# Altium footprint library 400236.PcbLib: 96 footprints (part 2 of 6)
Each footprint in its own frame and in the unit in brackets; x right, y up, seen from the top. Pads: shape width x height; smd on the part's side, far side on the other; paste and mask are expansions set on the pad; w line width, h text height; cw(c..) or ccw(c..) is an arc to the next point about the centre after c.
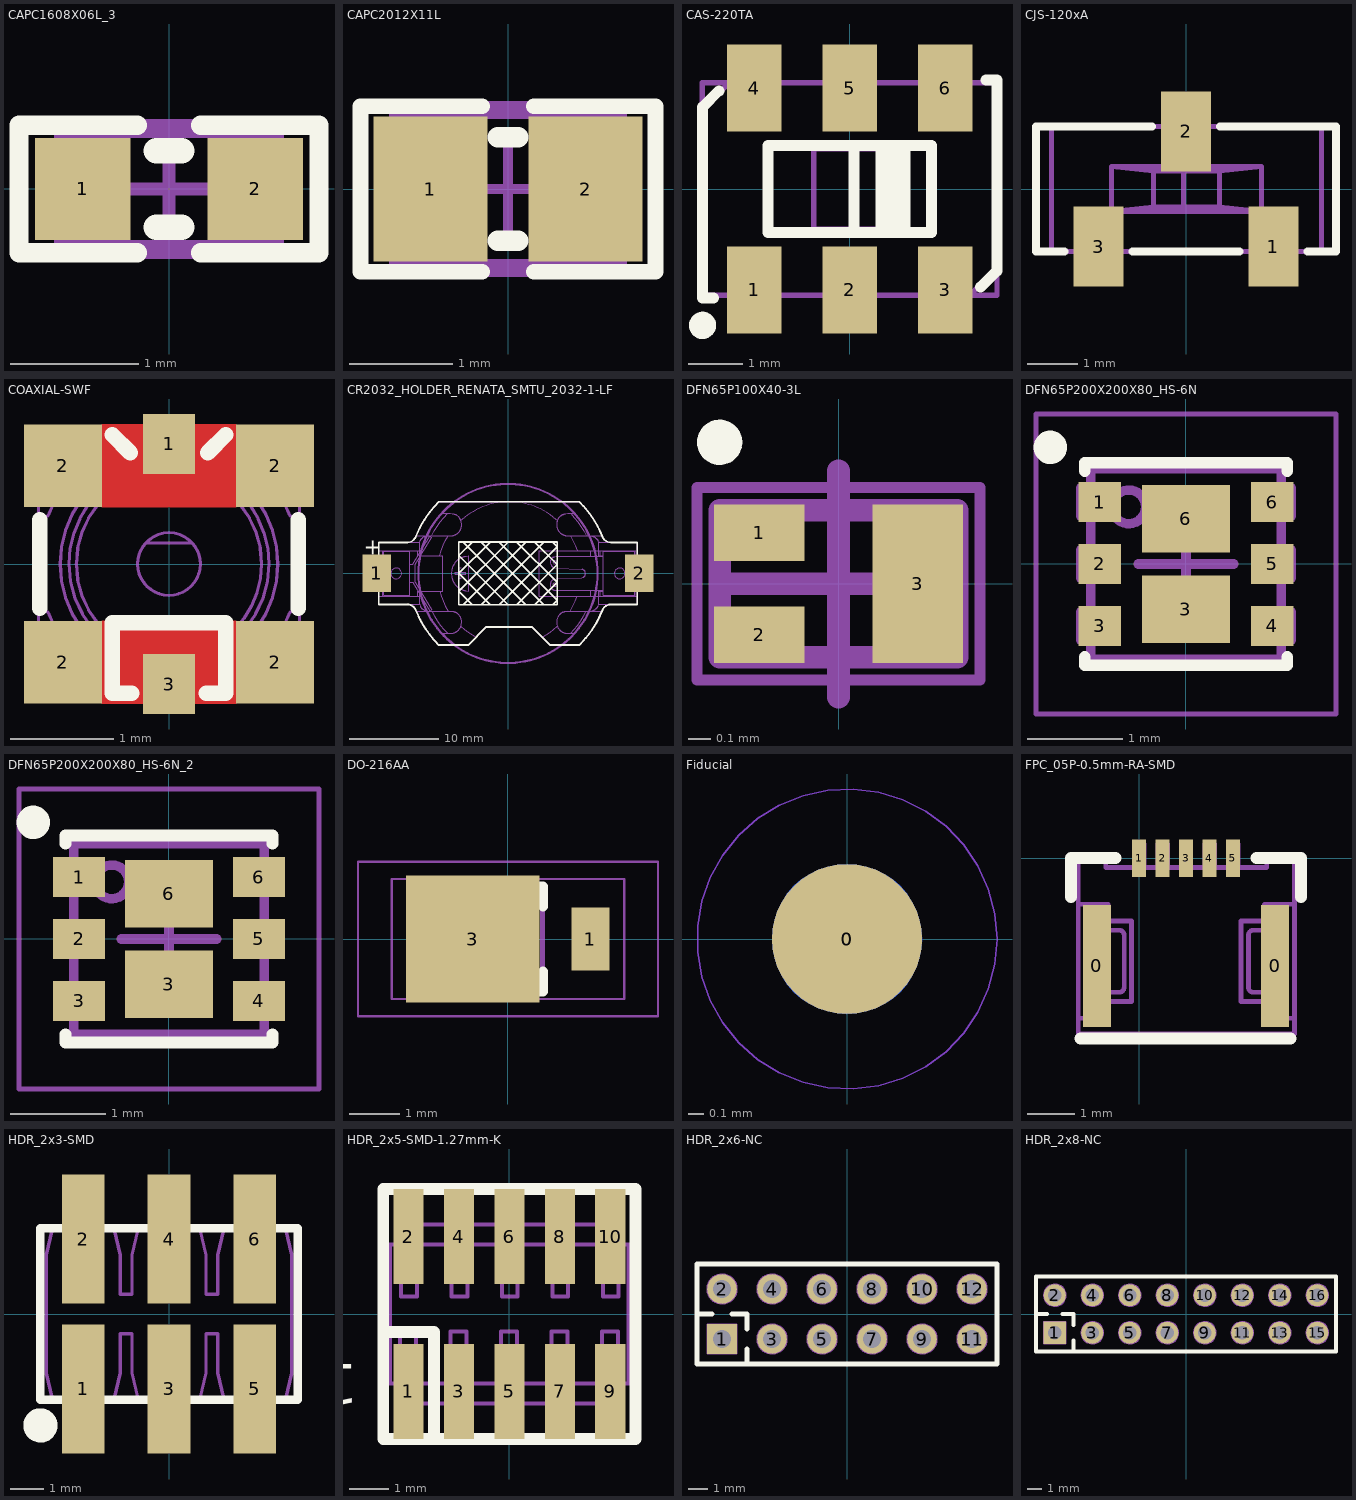
[diagram p1: the footprints below, top view; thin cyan lines are the x and y axes]

## CAPC1608X06L_3 [mm]
pads (2):
  rect 0.75x0.8 smd: 1(-0.675,0) 2(0.675,0)
Top Overlay:
  lines w0.152: -0.25,-0.5 -1.175,-0.5 -1.175,0.5 -0.25,0.5 ; 0.25,-0.5 1.175,-0.5 1.175,0.5 0.25,0.5
  lines w0.2: -0.1,-0.3 0.1,-0.3 ; -0.1,0.3 0.1,0.3
Mechanical 7:
  lines w0.1: -0.85,-0.45 -0.85,0.45 0.85,0.45 0.85,-0.45 -0.85,-0.45
  text ".Designator" at -0.364,-0.143 h0.3
Mechanical 15:
  lines w0.1: -0.45,0 0.45,0 ; 0,-0.45 0,0.45 ; -1.175,-0.5 1.175,-0.5 1.175,0.5 -1.175,0.5 -1.175,-0.5
3D body "User Library-Chip Capacitor 0603.step": height 0.8, standoff 0, extent -0.8,-0.43 0.8,0.43

## CAPC2012X11L [mm]
pads (2):
  rect 1.1x1.4 smd: 1(-0.75,0) 2(0.75,0)
Top Overlay:
  lines w0.152: -0.25,-0.8 -1.425,-0.8 -1.425,0.8 -0.25,0.8 ; 0.25,-0.8 1.425,-0.8 1.425,0.8 0.25,0.8
  lines w0.2: -0.1,-0.5 0.1,-0.5 ; -0.1,0.5 0.1,0.5
Mechanical 7:
  lines w0.1: -1.1,-0.725 1.1,-0.725 1.1,0.725 -1.1,0.725 -1.1,-0.725
  text ".Designator" at -0.396,-0.125 h0.3
Mechanical 15:
  lines w0.1: -0.5,0 0.5,0 ; 0,-0.5 0,0.5 ; -1.425,-0.8 1.425,-0.8 1.425,0.8 -1.425,0.8 -1.425,-0.8
3D body "SW3dPS-0805 SMD Capacitor.STEP": height 0.77, standoff -0.01, extent -1,-0.625 1,0.625

## CAS-220TA [mm]
pads (6):
  rect 1x1.6 smd: 1(-1.75,-1.85) 2(0,-1.85) 3(1.75,-1.85) 4(-1.75,1.85) 5(0,1.85) 6(1.75,1.85)
Top Overlay:
  circle w0.3: c-2.7,-2.5 r0.1
  rectangle: 0.47,-0.8 1.11,0.8
  lines w0.2: -2.5,-2 -2.7,-2 -2.7,1.5 -2.4,1.8 ; 0.08,-0.8 0.08,0.8 ; 2.4,-1.8 2.7,-1.5 2.7,2 2.5,2 ; -1.5,-0.8 -1.5,0.8 1.5,0.8 1.5,-0.8 -1.5,-0.8
Mechanical 7:
  lines w0.1: -2.7,1.45 -2.2,1.95 ; -2.05,-1.95 -2.05,-2.1 -1.45,-2.1 -1.45,-1.95 ; -2.05,1.95 -2.05,2.1 -1.45,2.1 -1.45,1.95 ; -0.3,-1.95 -0.3,-2.1 0.3,-2.1 0.3,-1.95 ; -0.3,1.95 -0.3,2.1 0.3,2.1 0.3,1.95 ; 0.06,-0.738 0.06,0.738 ; 1.45,-1.95 1.45,-2.1 2.05,-2.1 2.05,-1.95 ; 1.45,1.95 1.45,2.1 2.05,2.1 2.05,1.95 ; 2.2,-1.95 2.7,-1.45 ; -1.5,-0.828 -1.5,0.828 ; -1.5,-0.828 1.5,-0.828 ; -1.5,-0.828 -0.66,-0.738 ; -1.5,0.828 -0.66,0.738 ; -1.5,0.828 1.5,0.828 ; -0.66,-0.738 0.66,-0.738 ; -0.66,-0.738 -0.66,0.738 ; -0.66,0.738 0.66,0.738 ; 0.66,-0.738 0.66,0.738 ; 0.66,-0.738 1.5,-0.828 ; 0.66,0.738 1.5,0.828 ; 1.5,-0.828 1.5,0.828 ; -2.7,-1.95 2.7,-1.95 2.7,1.95 -2.7,1.95 -2.7,-1.95
  text ".Designator" at 0.546,1.329 h0.3
3D body: height 2.5, standoff 2.2, extent -2.7,-2 2.7,-0.8
3D body: height 0.15, standoff 0, extent -0.3,1.305 0.3,2.005
3D body: height 0.15, standoff 0, extent 1.45,-2.005 2.05,-1.305
3D body: height 0.15, standoff 0, extent -2.05,-2.005 -1.45,-1.305
3D body: height 1.2, standoff 0, extent -0.3,2.005 0.3,2.155
3D body: height 1.2, standoff 0, extent 1.45,-2.155 2.05,-2.005
3D body: height 1.2, standoff 0, extent -2.05,-2.155 -1.45,-2.005
3D body: height 2.5, standoff 2.2, extent 1.5,-1.15 2.7,1.15
3D body: height 2.5, standoff 2.2, extent -2.7,-1.15 -1.5,1.15
3D body: height 2.5, standoff 2.2, extent -2.7,0.8 2.7,2
3D body: height 2.2, standoff 0.15, extent -2.7,-2 2.7,2
3D body: height 1.2, standoff 0, extent -0.3,-2.155 0.3,-2.005
3D body: height 0.15, standoff 0, extent -0.3,-2.005 0.3,-1.305
3D body: height 1.2, standoff 0, extent -2.05,2.005 -1.45,2.155
3D body: height 0.15, standoff 0, extent -2.05,1.305 -1.45,2.005
3D body: height 1.2, standoff 0, extent 1.45,2.005 2.05,2.155
3D body: height 0.15, standoff 0, extent 1.45,1.305 2.05,2.005
3D body: height 2.5, standoff 2.22, extent 0.47,-0.8 1.11,0.8
3D body: height 2.22, standoff 2.2, extent 0.08,-0.8 1.5,0.8
3D body: height 2.51, standoff 2.5, extent -1.497,-1.879 -0.9,-1.28

## CJS-120xA [mm]
pads (3):
  rect 1x1.6 smd: 1(1.75,-1.15) 2(0,1.15) 3(-1.75,-1.15)
Top Overlay:
  lines w0.152: -2.43,-1.25 -3,-1.25 -3,1.25 -0.68,1.25 ; -1.07,-1.25 1.07,-1.25 ; 0.68,1.25 3,1.25 3,-1.25 2.43,-1.25
Mechanical 7:
  lines w0.1: -2.04,-1.25 -2.04,-1.4 -1.44,-1.4 -1.44,-1.25 ; -0.29,1.25 -0.29,1.4 0.31,1.4 0.31,1.25 ; 0.07,-0.36 -0.65,-0.36 ; 0.07,0.36 -0.65,0.36 ; 1.46,-1.25 1.46,-1.4 2.06,-1.4 2.06,-1.25 ; -1.49,-0.45 -1.49,0.45 ; -1.49,-0.45 1.51,-0.45 ; -1.49,-0.45 -0.65,-0.36 ; -1.49,0.45 1.51,0.45 ; -1.49,0.45 -0.65,0.36 ; -0.65,-0.36 -0.65,0.36 ; 0.67,-0.36 0.67,0.36 ; 0.67,-0.36 -0.05,-0.36 -0.05,0.36 0.67,0.36 ; 0.67,-0.36 1.51,-0.45 ; 0.67,0.36 1.51,0.45 ; 1.51,-0.45 1.51,0.45 ; -2.69,-1.25 -2.69,1.25 2.71,1.25 2.71,-1.25 -2.69,-1.25
  text ".Designator" at -0.47,-1 h0.3
3D body "User Library-CJS-1200TA -Copal Electronics -SPDT Micro Slide Switch.step": height 2.5, standoff 0, extent -3,-1.4 3,1.45

## COAXIAL-SWF [mm]
pads (6):
  rect 0.5x0.58 smd: 1(0,1.16) 3(0,-1.16)
  rect 0.75x0.8 smd: 2(-1.025,-0.95) 2(-1.025,0.95) 2(1.025,-0.95) 2(1.025,0.95)
Top Layer:
  pour cut-out: 0.65,-0.55 -0.65,-0.55 -0.65,-1.35 0.65,-1.35
  pour cut-out: -0.65,0.55 0.65,0.55 0.65,1.35 -0.65,1.35
Top Overlay:
  lines w0.15: -1.25,-0.43 -1.25,0.43 ; -0.55,1.25 -0.375,1.075 ; -0.36,-1.25 -0.55,-1.25 -0.55,-0.57 0.55,-0.57 0.55,-1.25 0.36,-1.25 ; 0.375,1.075 0.55,1.25 ; 1.25,-0.43 1.25,0.43
Mechanical 7:
  drawing of 206 lines, arcs and shapes, not listed
  text ".Designator" at -0.236,-0.726 h0.3
3D body: height 1.55, standoff 1.25, extent -1.05,-1.05 1.05,1.05
3D body: height 1.25, standoff 0.95, extent -1.05,-1.049 1.05,1.05
3D body: height 0.9, standoff 0.6, extent -1.05,-1.049 1.05,1.05
3D body: height 0.55, standoff 0.1, extent -1.262,-1.252 1.262,1.253
3D body: height 0.6, standoff 0, extent -1.262,0.655 -0.757,1.248
3D body: height 0.6, standoff 0, extent -1.262,-1.25 -0.757,-0.649
3D body: height 0.6, standoff 0, extent 0.757,-1.246 1.262,-0.653
3D body: height 0.6, standoff 0, extent 0.757,0.655 1.262,1.249
3D body: height 0.95, standoff 0.75, extent -1,-0.999 1,1.001
3D body: height 0.75, standoff 0.6, extent -1.05,-1.049 1.05,1.05
3D body: height 1.4, standoff 0.6, extent -0.9,-0.9 0.9,0.901
3D body: height 0.6, standoff 0.55, extent -1.262,-1.248 1.262,1.251
3D body: height 0.15, standoff 0, extent -0.227,0.899 0.227,1.299
3D body: height 0.15, standoff 0, extent -0.227,-1.301 0.227,-0.758

## CR2032_HOLDER_RENATA_SMTU_2032-1-LF [mm]
pads (2):
  rect 3.2x4.2 smd: 1(-14.65,0) 2(14.65,0)
Top Overlay:
  drawing of 220 lines, arcs and shapes, not listed
  text "+" at -16.1,2.1 h1.78
Mechanical 7:
  drawing of 1332 lines, arcs and shapes, not listed
Mechanical 15:
  circle w0.25: c0,0 r10
3D body "SMTU2032-LF.step": height 5.4, standoff 0, extent -15.9,-8.05 15.9,8.05

## DFN65P100X40-3L [mm]
pads (3):
  rect 0.4x0.25 smd: 1(-0.35,0.225) 2(-0.35,-0.225)
  rect 0.4x0.7 smd: 3(0.35,0)
Top Overlay:
  circle w0.1: c-0.525,0.625 r0.05
Mechanical 7:
  lines w0.1: -0.525,-0.325 -0.525,0.325 0.525,0.325 0.525,-0.325 -0.525,-0.325
  text ".Designator" at -0.4,-0.15 h0.3
Mechanical 15:
  lines w0.05: -0.625,-0.425 -0.625,0.425 0.625,0.425 0.625,-0.425 -0.625,-0.425
  lines w0.1: -0.5,0 0.5,0 ; 0,-0.5 0,0.5
3D body "DFN65P100X40-3L.step": height 0.4, standoff 0, extent -0.525,-0.325 0.525,0.325

## DFN65P200X200X80_HS-6N [mm]
pads (8):
  rect 0.45x0.42 smd mask+0.055: 1(-0.905,0.65) 2(-0.905,0) 3(-0.905,-0.65) 4(0.905,-0.65) 5(0.905,0) 6(0.905,0.65)
  rect 0.92x0.71 smd mask+0.055: 3(0,-0.475) 6(0,0.475)
Top Overlay:
  circle w0.25: c-1.425,1.225 r0.05
  lines w0.125: -1.063,-0.978 -1.063,-1.063 1.063,-1.063 1.063,-0.978 ; -1.063,0.978 -1.063,1.063 1.063,1.063 1.063,0.978
Mechanical 7:
  circle w0.1: c-0.6,0.6 r0.177
  lines w0.1: -1,-0.8 -1.105,-0.8 -1.105,-0.5 -1,-0.5 ; -1,-0.15 -1.105,-0.15 -1.105,0.15 -1,0.15 ; -1,0.5 -1.105,0.5 -1.105,0.8 -1,0.8 ; 1,-0.8 1.105,-0.8 1.105,-0.5 1,-0.5 ; 1,-0.15 1.105,-0.15 1.105,0.15 1,0.15 ; 1,0.5 1.105,0.5 1.105,0.8 1,0.8 ; -1,-1 1,-1 1,1 -1,1 -1,-1
  text ".Designator" at -0.6,-0.2 h0.38
Mechanical 15:
  lines w0.05: -1.575,-1.575 1.575,-1.575 1.575,1.575 -1.575,1.575 -1.575,-1.575
  lines w0.1: -0.5,0 0.5,0 ; 0,-0.5 0,0.5
3D body "QFN65P200X200X65-6N.step": height 0.65, standoff 0, extent -1.051,-1.05 1.051,1.05

## DFN65P200X200X80_HS-6N_2 [mm]
pads (8):
  rect 0.55x0.42 smd mask+0.055: 1(-0.945,0.65) 2(-0.945,0) 3(-0.945,-0.65) 4(0.945,-0.65) 5(0.945,0) 6(0.945,0.65)
  rect 0.92x0.71 smd mask+0.055: 3(0,-0.475) 6(0,0.475)
Top Overlay:
  circle w0.25: c-1.425,1.225 r0.05
  lines w0.125: -1.085,-1 -1.085,-1.085 1.085,-1.085 1.085,-1 ; -1.085,1 -1.085,1.085 1.085,1.085 1.085,1
Mechanical 7:
  circle w0.1: c-0.6,0.6 r0.177
  lines w0.1: -1,-1 1,-1 1,1 -1,1 -1,-1
  text ".Designator" at -0.6,-0.2 h0.38
Mechanical 15:
  lines w0.05: -1.575,-1.575 1.575,-1.575 1.575,1.575 -1.575,1.575 -1.575,-1.575
  lines w0.1: -0.5,0 0.5,0 ; 0,-0.5 0,0.5
3D body "DFN65P200X200X80_HS-6N.step": height 0.8, standoff 0, extent -1.025,-1.025 1.025,1.025

## DO-216AA [mm]
pads (2):
  rect 0.762x1.27 smd: 1(1.65,0)
  rect 2.67x2.54 smd: 3(-0.7,0)
Top Overlay:
  rectangle: -1.6,-1.05 -0.8,1.05
  lines w0.2: -1.5,-0.65 -1.5,-1.05 0.7,-1.05 0.7,-0.65 ; -1.5,0.65 -1.5,1.05 0.7,1.05 0.7,0.65
Mechanical 7:
  lines w0.1: -1.49,-1.025 0.69,-1.025 0.69,1.025 -1.49,1.025 -1.49,-1.025
  text ".Designator" at -0.03,0.138 h0.3
Mechanical 15:
  lines w0.05: -3,-1.55 -3,1.55 3,1.55 3,-1.55 -3,-1.55 ; -2.325,-1.2 -2.325,1.2 2.325,1.2 2.325,-1.2 -2.325,-1.2
  lines w0.1: -0.5,0 0.5,0 -0.5,0 ; 0,-0.5 0,0.5 0,-0.5
3D body "User Library-DO-216AA.step": height 1.01, standoff 0, extent -1.9,-1 1.95,1

## Fiducial [mm]
pads (2):
  round 1 smd paste+0 mask+0.5: 0(0,0)
  round 1 smd far side paste+0 mask+0.5: 0(0,0)
Top Layer keep-out:
  circle w0.01: c0,0 r1
Bottom Layer keep-out:
  circle w0.01: c0,0 r1

## FPC_05P-0.5mm-RA-SMD [mm]
pads (7):
  rect 0.6x2.6 smd: 0(-0.9,-2.3) 0(2.9,-2.3)
  rect 0.3x0.8 smd: 1(0,0) 2(0.5,0) 3(1,0) 4(1.5,0) 5(2,0)
Top Overlay:
  lines w0.254: -1.45,-0.825 -1.45,0 -0.5,0 ; -1.25,-3.85 3.225,-3.85 ; 2.5,0 3.45,0 3.45,-0.825
Mechanical 7:
  lines w0.1: -1.3,-3.416 -0.661,-3.416 -0.661,-3.06 -0.162,-3.06 -0.162,-1.34 -0.661,-1.34 -0.661,-0.983 -1.3,-0.983 ; -1.033,-3.416 -1.033,-0.983 ; -1.027,-2.86 -0.422,-2.86 ccw(c-0.418,-2.762) -0.321,-2.761 -0.321,-1.642 ccw(c-0.418,-1.638) -0.422,-1.54 -1.027,-1.54 ; -0.098,-0.198 -0.098,0.305 0.106,0.305 0.106,-0.198 ; -0.098,-0.048 0.106,-0.048 ; -0.098,0.006 0.106,0.006 ; 0.401,-0.198 0.401,0.305 0.605,0.305 0.605,-0.198 ; 0.401,-0.048 0.605,-0.048 ; 0.401,0.006 0.605,0.006 ; 0.901,-0.198 0.901,0.305 1.104,0.305 1.104,-0.198 ; 0.901,-0.048 1.104,-0.048 ; 0.901,0.006 1.104,0.006 ; 1.406,-0.198 1.406,0.305 1.61,0.305 1.61,-0.198 ; 1.406,-0.048 1.61,-0.048 ; 1.406,0.006 1.61,0.006 ; 1.905,-0.198 1.905,0.305 2.109,0.305 2.109,-0.198 ; 1.905,-0.048 2.109,-0.048 ; 1.905,0.006 2.109,0.006 ; 3.039,-2.86 2.435,-2.86 cw(c2.431,-2.762) 2.333,-2.761 2.333,-1.642 cw(c2.431,-1.638) 2.435,-1.54 3.039,-1.54 ; 3.046,-3.416 3.046,-0.983 ; 3.313,-3.416 2.674,-3.416 2.674,-3.06 2.174,-3.06 2.174,-1.34 2.674,-1.34 2.674,-0.983 3.313,-0.983 ; -1.3,-3.75 3.313,-3.75 3.313,0.006 2.724,0.006 2.724,-0.198 -0.712,-0.198 -0.712,0.006 -1.3,0.006 -1.3,-3.75
  text ".Designator" at 0.829,-2.15 h0.3
3D body "512810594.stp": height 1.2, standoff 0, extent -1.3,-3.85 3.3,0.2

## HDR_2x3-SMD [mil]
pads (6):
  rect 50x150 smd: 1(-100,-87.5) 2(-100,87.5) 3(0,-87.5) 4(0,87.5) 5(100,-87.5) 6(100,87.5)
Top Overlay:
  circle w20: c-150,-130 r10
  lines w10: -150,-100 150,-100 150,100 -150,100 -150,-100
Mechanical 7:
  lines w3.94: -113.78,-98.43 -113.78,-119.75 ccw(c-100,-119.75) -86.22,-119.75 -86.22,-98.43 ; -113.78,98.43 -113.78,119.75 cw(c-100,119.75) -86.22,119.75 -86.22,98.43 ; -13.78,-98.43 -13.78,-119.75 ccw(c0,-119.75) 13.78,-119.75 13.78,-98.43 ; -13.78,98.43 -13.78,119.75 cw(c0,119.75) 13.78,119.75 13.78,98.43 ; 86.22,-98.43 86.22,-119.75 ccw(c100,-119.75) 113.78,-119.75 113.78,-98.43 ; 86.22,98.43 86.22,119.75 cw(c100,119.75) 113.78,119.75 113.78,98.43 ; -143.11,-68.71 -136.22,-98.43 -63.78,-98.43 -56.89,-68.71 -56.89,-22.88 -43.11,-22.88 -43.11,-68.71 -36.22,-98.43 36.22,-98.43 43.11,-68.71 43.11,-22.88 56.89,-22.88 56.89,-68.71 63.78,-98.43 136.22,-98.43 143.11,-68.71 143.11,68.71 136.22,98.43 63.78,98.43 56.89,68.71 56.89,22.88 43.11,22.88 43.11,68.71 36.22,98.43 -36.22,98.43 -43.11,68.71 -43.11,22.88 -56.89,22.88 -56.89,68.71 -63.78,98.43 -136.22,98.43 -143.11,68.71 -143.11,-68.71 ; -111.81,-61.81 -88.19,-61.81 -88.19,-38.19 -111.81,-38.19 -111.81,-61.81 ; -111.81,38.19 -88.19,38.19 -88.19,61.81 -111.81,61.81 -111.81,38.19 ; -11.81,-61.81 -11.81,-38.19 11.81,-38.19 11.81,-61.81 -11.81,-61.81 ; -11.81,38.19 -11.81,61.81 11.81,61.81 11.81,38.19 -11.81,38.19 ; 88.19,-61.81 88.19,-38.19 111.81,-38.19 111.81,-61.81 88.19,-61.81 ; 88.19,38.19 88.19,61.81 111.81,61.81 111.81,38.19 88.19,38.19
  text ".Designator" at -90,-9 h12
3D body "pin_header_a-sl254-dg-g06mp1.stp": height 382.03, standoff -1.57, extent -149.99,-147.63 150.01,147.64

## HDR_2x5-SMD-1.27mm-K [mm]
pads (10):
  rect 0.76x2.4 smd: 1(-2.54,-1.95) 2(-2.54,1.95) 3(-1.27,-1.95) 4(-1.27,1.95) 5(0,-1.95) 6(0,1.95) 7(1.27,-1.95) 8(1.27,1.95) 9(2.54,-1.95) 10(2.54,1.95)
Top Overlay:
  lines w0.3: -3.175,-0.45 -1.9,-0.45 -1.9,-3.15 ; -3.175,-3.15 -3.175,3.15 3.175,3.15 3.175,-3.15 -3.175,-3.15
  text "1" at -3.81,-1.27 h1.02
Mechanical 7:
  lines w0.1: -2.74,-1.75 -2.74,-2.459 ccw(c-2.54,-2.459) -2.34,-2.459 -2.34,-2.25 ; -2.74,1.75 -2.74,2.459 cw(c-2.54,2.459) -2.34,2.459 -2.34,2.25 ; -2.5,-1.75 -2.5,-2.25 -1.25,-2.25 ; -2.5,1.75 -2.5,2.25 2.5,2.25 2.5,1.75 ; -1.47,-2.25 -1.47,-2.459 ccw(c-1.27,-2.459) -1.07,-2.459 -1.07,-2.25 ; -1.47,2.25 -1.47,2.459 cw(c-1.27,2.459) -1.07,2.459 -1.07,2.25 ; -1.25,-1.75 -1.25,-2.25 ; -0.2,-2.25 -0.2,-2.459 ccw(c0,-2.459) 0.2,-2.459 0.2,-2.25 ; -0.2,2.25 -0.2,2.459 cw(c0,2.459) 0.2,2.459 0.2,2.25 ; 1.07,-2.25 1.07,-2.459 ccw(c1.27,-2.459) 1.47,-2.459 1.47,-2.25 ; 1.07,2.25 1.07,2.459 cw(c1.27,2.459) 1.47,2.459 1.47,2.25 ; 1.25,-1.75 1.25,-2.25 ; 2.34,-2.25 2.34,-2.459 ccw(c2.54,-2.459) 2.74,-2.459 2.74,-1.75 ; 2.34,2.25 2.34,2.459 cw(c2.54,2.459) 2.74,2.459 2.74,1.75 ; 2.5,-1.75 2.5,-2.25 1.25,-2.25 ; -1.25,-2.25 1.25,-2.25 ; -3,-1.75 -3,1.75 3,1.75 3,-1.75 -3,-1.75 ; -2.75,-0.835 -2.75,-0.435 -2.35,-0.435 -2.35,-0.835 -2.75,-0.835 ; -2.73,0.435 -2.73,0.835 -2.33,0.835 -2.33,0.435 -2.73,0.435 ; -1.48,-0.835 -1.48,-0.435 -1.08,-0.435 -1.08,-0.835 -1.48,-0.835 ; -1.46,0.435 -1.46,0.835 -1.06,0.835 -1.06,0.435 -1.46,0.435 ; -0.21,-0.835 -0.21,-0.435 0.19,-0.435 0.19,-0.835 -0.21,-0.835 ; -0.19,0.435 -0.19,0.835 0.21,0.835 0.21,0.435 -0.19,0.435 ; 1.06,-0.835 1.06,-0.435 1.46,-0.435 1.46,-0.835 1.06,-0.835 ; 1.08,0.435 1.08,0.835 1.48,0.835 1.48,0.435 1.08,0.435 ; 2.33,-0.835 2.33,-0.435 2.73,-0.435 2.73,-0.835 2.33,-0.835 ; 2.35,0.435 2.35,0.835 2.75,0.835 2.75,0.435 2.35,0.435
  text ".Designator" at 0.356,0.152 h0.3
3D body "Samtec-FTSH-105-01-F-DV-K.step": height 6.11, standoff -0.01, extent -3.137,-2.921 3.137,2.921

## HDR_2x6-NC [mm]
pads (12):
  rect 1.5x1.5 hole 0.9: 1(-6.35,-1.27)
  round 1.5 hole 0.9: 2(-6.35,1.27) 3(-3.81,-1.27) 4(-3.81,1.27) 5(-1.27,-1.27) 6(-1.27,1.27) 7(1.27,-1.27) 8(1.27,1.27) 9(3.81,-1.27) 10(3.81,1.27) 11(6.35,-1.27) 12(6.35,1.27)
Top Overlay:
  lines w0.254: -7.62,0 -6.858,0 ; -5.842,0 -5.08,0 -5.08,-0.762 ; -5.08,-2.54 -5.08,-1.778 ; -7.62,-2.54 7.62,-2.54 7.62,2.54 -7.62,2.54 -7.62,-2.54
Mechanical 7:
  circle w0.1: c6.35,-1.27 r0.45
  circle w0.1: c6.35,-1.27 r0.75
  circle w0.1: c6.35,1.27 r0.75
  circle w0.1: c6.35,1.27 r0.45
  circle w0.1: c3.81,-1.27 r0.45
  circle w0.1: c3.81,-1.27 r0.75
  circle w0.1: c3.81,1.27 r0.75
  circle w0.1: c3.81,1.27 r0.45
  circle w0.1: c1.27,-1.27 r0.45
  circle w0.1: c1.27,-1.27 r0.75
  circle w0.1: c1.27,1.27 r0.75
  circle w0.1: c1.27,1.27 r0.45
  circle w0.1: c-1.27,-1.27 r0.45
  circle w0.1: c-1.27,-1.27 r0.75
  circle w0.1: c-1.27,1.27 r0.75
  circle w0.1: c-1.27,1.27 r0.45
  circle w0.1: c-3.81,1.27 r0.45
  circle w0.1: c-3.81,1.27 r0.75
  circle w0.1: c-6.35,1.27 r0.45
  circle w0.1: c-6.35,1.27 r0.75
  circle w0.1: c-3.81,-1.27 r0.75
  circle w0.1: c-3.81,-1.27 r0.45
  circle w0.1: c-6.35,-1.27 r0.45
  lines w0.1: -7.62,0 -6.858,0 ; -5.842,0 -5.08,0 -5.08,-0.762 ; -5.08,-2.54 -5.08,-1.778 ; -7.62,-2.54 -7.62,2.54 7.62,2.54 7.62,-2.54 -7.62,-2.54 ; -7.1,-2.02 -5.6,-2.02 -5.6,-0.52 -7.1,-0.52 -7.1,-2.02
  text ".Designator" at -0.525,-0.1 h0.31
Mechanical 8:
  circle w0.1: c-6.35,-1.27 r0.45
  circle w0.1: c-3.81,-1.27 r0.45
  circle w0.1: c-3.81,-1.27 r0.75
  circle w0.1: c-6.35,1.27 r0.75
  circle w0.1: c-6.35,1.27 r0.45
  circle w0.1: c-3.81,1.27 r0.75
  circle w0.1: c-3.81,1.27 r0.45
  circle w0.1: c-1.27,1.27 r0.45
  circle w0.1: c-1.27,1.27 r0.75
  circle w0.1: c-1.27,-1.27 r0.75
  circle w0.1: c-1.27,-1.27 r0.45
  circle w0.1: c1.27,1.27 r0.45
  circle w0.1: c1.27,1.27 r0.75
  circle w0.1: c1.27,-1.27 r0.75
  circle w0.1: c1.27,-1.27 r0.45
  circle w0.1: c3.81,1.27 r0.45
  circle w0.1: c3.81,1.27 r0.75
  circle w0.1: c3.81,-1.27 r0.75
  circle w0.1: c3.81,-1.27 r0.45
  circle w0.1: c6.35,1.27 r0.45
  circle w0.1: c6.35,1.27 r0.75
  circle w0.1: c6.35,-1.27 r0.75
  circle w0.1: c6.35,-1.27 r0.45
  lines w0.1: -7.1,-2.02 -7.1,-0.52 -5.6,-0.52 -5.6,-2.02 -7.1,-2.02

## HDR_2x8-NC [mm]
pads (16):
  rect 1.5x1.5 hole 0.9: 1(-8.89,-1.27)
  round 1.5 hole 0.9: 2(-8.89,1.27) 3(-6.35,-1.27) 4(-6.35,1.27) 5(-3.81,-1.27) 6(-3.81,1.27) 7(-1.27,-1.27) 8(-1.27,1.27) 9(1.27,-1.27) 10(1.27,1.27) 11(3.81,-1.27) 12(3.81,1.27) 13(6.35,-1.27) 14(6.35,1.27) 15(8.89,-1.27) 16(8.89,1.27)
Top Overlay:
  lines w0.254: -10.16,0 -9.398,0 ; -8.382,0 -7.62,0 -7.62,-0.762 ; -7.62,-2.54 -7.62,-1.778 ; -10.16,-2.54 -10.16,2.54 10.16,2.54 10.16,-2.54 -10.16,-2.54
Mechanical 7:
  circle w0.1: c-8.89,-1.27 r0.45
  circle w0.1: c-6.35,-1.27 r0.45
  circle w0.1: c-6.35,-1.27 r0.75
  circle w0.1: c-8.89,1.27 r0.75
  circle w0.1: c-8.89,1.27 r0.45
  circle w0.1: c-6.35,1.27 r0.75
  circle w0.1: c-6.35,1.27 r0.45
  circle w0.1: c-3.81,1.27 r0.45
  circle w0.1: c-3.81,1.27 r0.75
  circle w0.1: c-3.81,-1.27 r0.75
  circle w0.1: c-3.81,-1.27 r0.45
  circle w0.1: c-1.27,1.27 r0.45
  circle w0.1: c-1.27,1.27 r0.75
  circle w0.1: c-1.27,-1.27 r0.75
  circle w0.1: c-1.27,-1.27 r0.45
  circle w0.1: c1.27,1.27 r0.45
  circle w0.1: c1.27,1.27 r0.75
  circle w0.1: c1.27,-1.27 r0.75
  circle w0.1: c1.27,-1.27 r0.45
  circle w0.1: c3.81,1.27 r0.45
  circle w0.1: c3.81,1.27 r0.75
  circle w0.1: c3.81,-1.27 r0.75
  circle w0.1: c3.81,-1.27 r0.45
  circle w0.1: c6.35,1.27 r0.45
  circle w0.1: c6.35,1.27 r0.75
  circle w0.1: c6.35,-1.27 r0.75
  circle w0.1: c6.35,-1.27 r0.45
  circle w0.1: c8.89,1.27 r0.45
  circle w0.1: c8.89,1.27 r0.75
  circle w0.1: c8.89,-1.27 r0.75
  circle w0.1: c8.89,-1.27 r0.45
  lines w0.1: -10.16,0 -9.398,0 ; -8.382,0 -7.62,0 -7.62,-0.762 ; -7.62,-2.54 -7.62,-1.778 ; -10.16,-2.54 10.16,-2.54 10.16,2.54 -10.16,2.54 -10.16,-2.54 ; -9.64,-2.02 -9.64,-0.52 -8.14,-0.52 -8.14,-2.02 -9.64,-2.02
  text ".Designator" at -0.525,-0.1 h0.31
Mechanical 8:
  circle w0.1: c8.89,-1.27 r0.45
  circle w0.1: c8.89,-1.27 r0.75
  circle w0.1: c8.89,1.27 r0.75
  circle w0.1: c8.89,1.27 r0.45
  circle w0.1: c6.35,-1.27 r0.45
  circle w0.1: c6.35,-1.27 r0.75
  circle w0.1: c6.35,1.27 r0.75
  circle w0.1: c6.35,1.27 r0.45
  circle w0.1: c3.81,-1.27 r0.45
  circle w0.1: c3.81,-1.27 r0.75
  circle w0.1: c3.81,1.27 r0.75
  circle w0.1: c3.81,1.27 r0.45
  circle w0.1: c1.27,-1.27 r0.45
  circle w0.1: c1.27,-1.27 r0.75
  circle w0.1: c1.27,1.27 r0.75
  circle w0.1: c1.27,1.27 r0.45
  circle w0.1: c-1.27,-1.27 r0.45
  circle w0.1: c-1.27,-1.27 r0.75
  circle w0.1: c-1.27,1.27 r0.75
  circle w0.1: c-1.27,1.27 r0.45
  circle w0.1: c-3.81,-1.27 r0.45
  circle w0.1: c-3.81,-1.27 r0.75
  circle w0.1: c-3.81,1.27 r0.75
  circle w0.1: c-3.81,1.27 r0.45
  circle w0.1: c-6.35,1.27 r0.45
  circle w0.1: c-6.35,1.27 r0.75
  circle w0.1: c-8.89,1.27 r0.45
  circle w0.1: c-8.89,1.27 r0.75
  circle w0.1: c-6.35,-1.27 r0.75
  circle w0.1: c-6.35,-1.27 r0.45
  circle w0.1: c-8.89,-1.27 r0.45
  lines w0.1: -9.64,-2.02 -8.14,-2.02 -8.14,-0.52 -9.64,-0.52 -9.64,-2.02